# Altium footprint library inductors.PCBLIB: 83 footprints (part 4 of 6)
Each footprint in its own frame and in the unit in brackets; x right, y up, seen from the top. Pads: shape width x height; smd on the part's side, far side on the other; paste and mask are expansions set on the pad; w line width, h text height; cw(c..) or ccw(c..) is an arc to the next point about the centre after c.
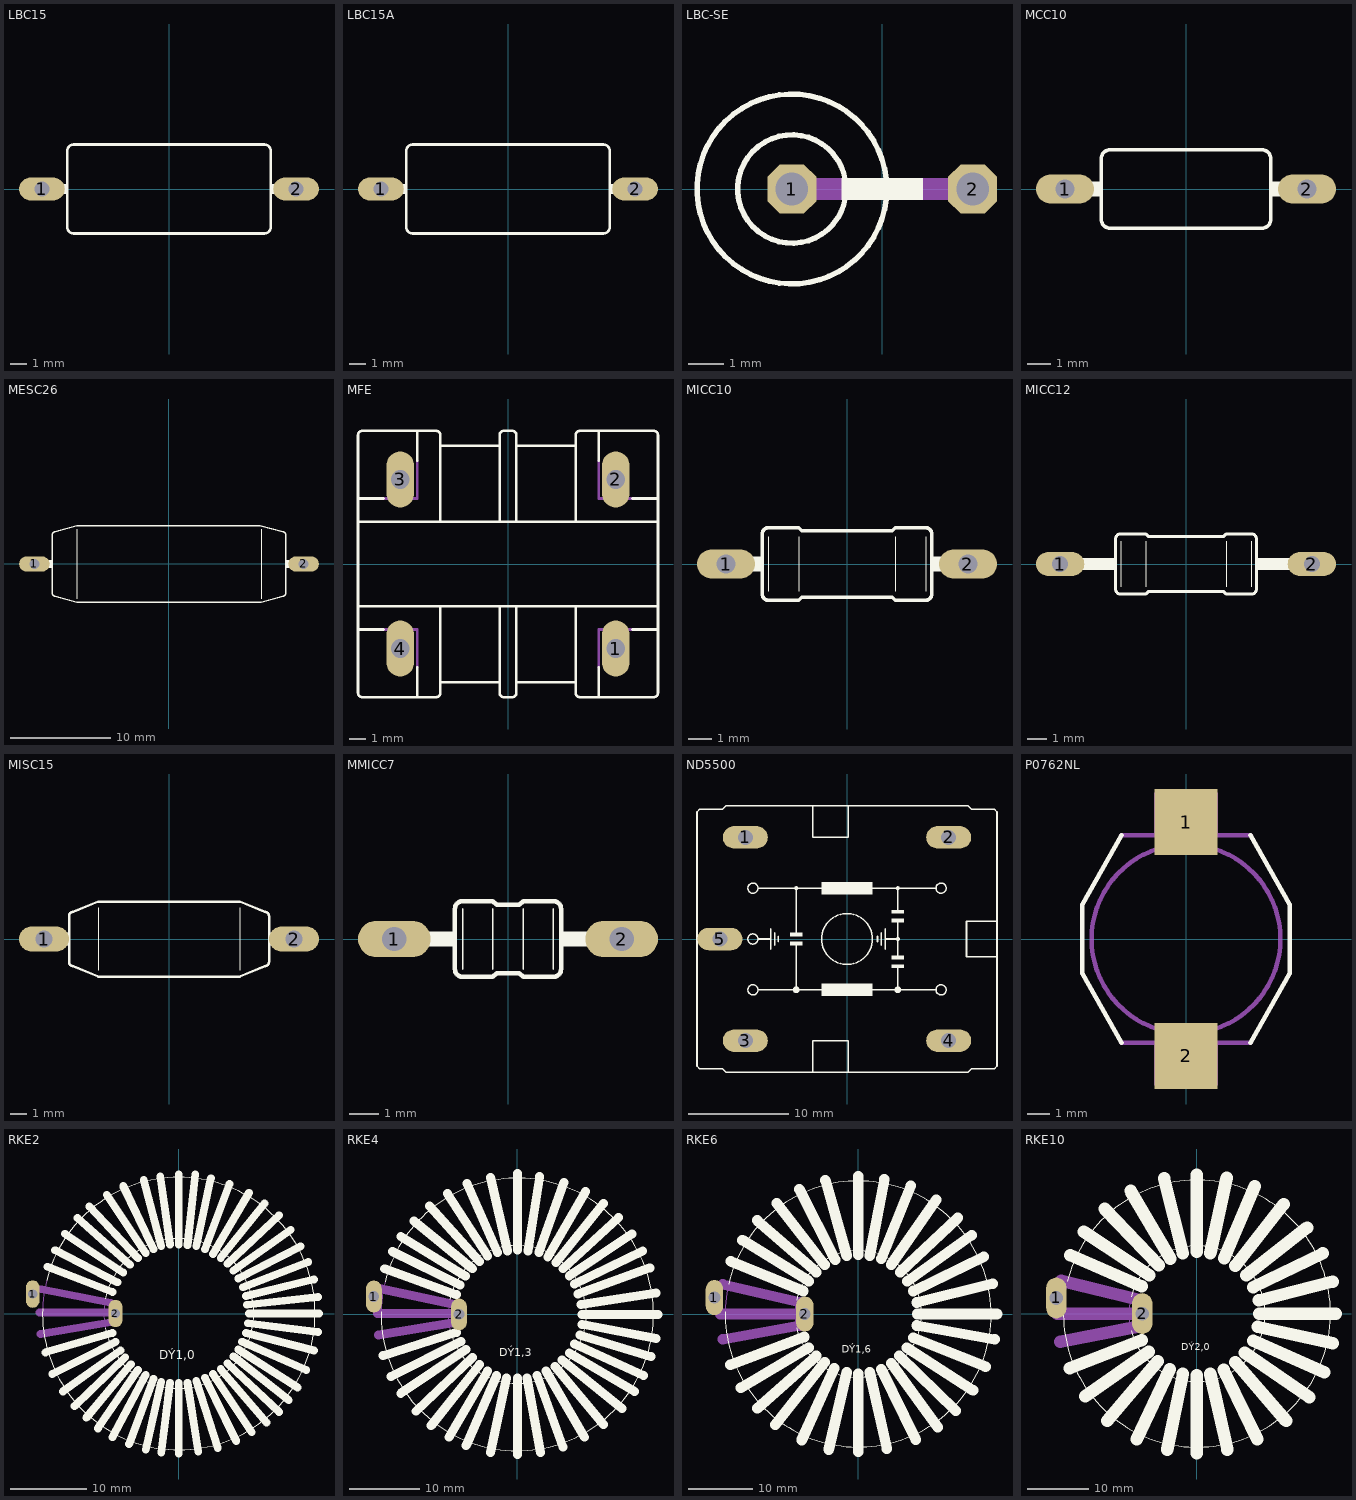
[diagram p3: the footprints below, top view; thin cyan lines are the x and y axes]

## LBC15 [mil]
pads (2):
  oval 108x54 hole 36: 1(-300,0) 2(300,0)
Top Overlay:
  rectangle: 240,-12 260,12
  rectangle: -260,-12 -240,12
  lines w6: -240,-90 -240,90 cw(c-225,90) -225,105 225,105 cw(c225,90) 240,90 240,-90 cw(c225,-90) 225,-105 -225,-105 cw(c-225,-90) -240,-90
Mechanical 16:
  lines w24: -300,0 -260,0 ; 260,0 300,0

## LBC15A [mil]
pads (2):
  oval 108x54 hole 36: 1(-300,0) 2(300,0)
Top Overlay:
  rectangle: 240,-12 253,12
  rectangle: -253,-12 -240,12
  lines w6: -240,-90 -240,90 cw(c-225,90) -225,105 225,105 cw(c225,90) 240,90 240,-90 cw(c225,-90) 225,-105 -225,-105 cw(c-225,-90) -240,-90
Mechanical 16:
  lines w24: -300,0 -255,0 ; 255,0 300,0

## LBC-SE [mil]
pads (2):
  oct 54x54 hole 36: 1(-100,0) 2(100,0)
Top Overlay:
  circle w6: c-100,0 r105
  circle w6: c-100,0 r60
  rectangle: -45,-12 45,12
Mechanical 16:
  lines w24: -100,0 -45,0 ; 45,0 100,0

## MCC10 [mil]
pads (2):
  oval 96x48 hole 32: 1(-200,0) 2(200,0)
Top Overlay:
  rectangle: 140,-12 166,12
  rectangle: -166,-12 -140,12
  lines w6: -140,-50 -140,50 cw(c-125,50) -125,65 125,65 cw(c125,50) 140,50 140,-50 cw(c125,-50) 125,-65 -125,-65 cw(c-125,-50) -140,-50
Mechanical 16:
  lines w24: -200,0 -165,0 ; 165,0 200,0

## MESC26 [mil]
pads (2):
  oval 120x60 hole 40: 1(-525,0) 2(525,0)
Top Overlay:
  rectangle: 455,-16 473,16
  rectangle: -473,-16 -455,16
  lines w2: -360,-135 -360,135 ; 360,-135 360,135
  lines w6: -455,-115 ccw(c-445,-115) -445,-125 -360,-150 360,-150 445,-125 ccw(c445,-115) 455,-115 455,115 ccw(c445,115) 445,125 355,150 -360,150 -445,125 ccw(c-445,115) -455,115 -455,-115
Mechanical 16:
  lines w32: -525,0 -475,0 ; 475,0 525,0

## MFE [mil]
pads (4):
  oval 66x132 hole 44: 1(255,-200) 2(255,200) 3(-255,200) 4(-255,-200)
Top Overlay:
  lines w6: -355,-100 -160,-100 ; -355,100 -160,100 ; -294.69,-155 -355,-155 ; -294.69,155 -355,155 ; -215,-244.72 -215,-315 ; -215,244.72 -215,315 ; 215,-244.72 215,-315 ; 215,244.72 215,315 ; 294.69,-155 355,-155 ; 294.69,155 355,155 ; 355,-100 160,-100 ; 355,100 160,100 ; -355,-155 -355,-305 ccw(c-345,-305) -345,-315 -215,-315 ; -355,-155 -355,155 ; -355,155 -355,305 cw(c-345,305) -345,315 -215,315 ; -215,-315 -170,-315 ccw(c-170,-305) -160,-305 -160,-280 ; -215,315 -170,315 cw(c-170,305) -160,305 -160,280 ; -160,-280 -160,-100 ; -160,-280 -20,-280 ; -160,-100 -20,-100 ; -160,100 -20,100 ; -160,100 -160,280 ; -160,280 -20,280 ; -20,-280 -20,-100 ; -20,-280 -20,-305 ccw(c-10,-305) -10,-315 10,-315 ccw(c10,-305) 20,-305 20,-280 ; -20,-100 20,-100 ; -20,100 20,100 ; -20,100 -20,280 ; -20,280 -20,305 cw(c-10,305) -10,315 10,315 cw(c10,305) 20,305 20,280 ; 20,-280 20,-100 ; 20,-280 160,-280 ; 20,-100 160,-100 ; 20,100 160,100 ; 20,100 20,280 ; 20,280 160,280 ; 160,-280 160,-100 ; 160,-280 160,-305 ccw(c170,-305) 170,-315 215,-315 ; 160,100 160,280 ; 160,280 160,305 cw(c170,305) 170,315 215,315 ; 215,-315 345,-315 ccw(c345,-305) 355,-305 355,-155 ; 215,315 345,315 cw(c345,305) 355,305 355,155 ; 355,-155 355,155
Mechanical 16:
  lines w6: -294.69,-155 -215,-155 -215,-244.72 ; -294.69,155 -215,155 -215,244.72 ; 215,-244.72 215,-155 294.69,-155 ; 215,244.72 215,155 294.69,155

## MICC10 [mil]
pads (2):
  oval 96x48 hole 32: 1(-200,0) 2(200,0)
Top Overlay:
  rectangle: 140,-12 167,12
  rectangle: -167,-12 -140,12
  lines w2: -130,-45 -130,45 ; -80,-45 -80,45 ; 80,-45 80,45 ; 130,-45 130,45
  lines w6: -140,-50 ccw(c-130,-50) -130,-60 -80,-60 -75,-55 75,-55 80,-60 130,-60 ccw(c130,-50) 140,-50 140,50 ccw(c130,50) 130,60 80,60 75,55 -75,55 -80,60 -130,60 ccw(c-130,50) -140,50 -140,-50
Mechanical 16:
  lines w24: -200,0 -165,0 ; 165,0 200,0

## MICC12 [mil]
pads (2):
  oval 96x48 hole 32: 1(-250,0) 2(250,0)
Top Overlay:
  rectangle: 140,-12 216,12
  rectangle: -216,-12 -140,12
  lines w2: -130,-45 -130,45 ; -80,-45 -80,45 ; 80,-45 80,45 ; 130,-45 130,45
  lines w6: -140,-50 ccw(c-130,-50) -130,-60 -80,-60 -75,-55 75,-55 80,-60 130,-60 ccw(c130,-50) 140,-50 140,50 ccw(c130,50) 130,60 80,60 75,55 -75,55 -80,60 -130,60 ccw(c-130,50) -140,50 -140,-50
Mechanical 16:
  lines w24: -250,0 -205,0 ; 205,0 250,0

## MISC15 [mil]
pads (2):
  oval 120x60 hole 40: 1(-300,0) 2(300,0)
Top Overlay:
  rectangle: 240,-16 256,16
  rectangle: -256,-16 -240,16
  lines w2: -170,-75 -170,75 ; 170,-75 170,75
  lines w6: -240,-55 ccw(c-230,-55) -230,-65 -170,-90 170,-90 230,-65 ccw(c230,-55) 240,-55 240,55 ccw(c230,55) 230,65 170,90 -170,90 -230,65 ccw(c-230,55) -240,55 -240,-55
Mechanical 16:
  lines w32: -300,0 -260,0 ; 260,0 300,0

## MMICC7 [mil]
pads (2):
  oval 96x48 hole 32: 1(-150,0) 2(150,0)
Top Overlay:
  rectangle: 70,-10 115,10
  rectangle: -115,-10 -70,10
  lines w2: -60,-40 -60,40 ; -20,-40 -20,40 ; 20,-40 20,40 ; 60,-40 60,40
  lines w6: -70,-40 ccw(c-60,-40) -60,-50 -20,-50 -15,-45 15,-45 20,-50 60,-50 ccw(c60,-40) 70,-40 70,40 ccw(c60,40) 60,50 20,50 15,45 -15,45 -20,50 -60,50 ccw(c-60,40) -70,40 -70,-40
Mechanical 16:
  lines w20: -150,0 -115,0 ; 115,0 150,0

## ND5500 [mil]
pads (5):
  oval 177x88.5 hole 59: 1(-400,400) 2(400,400) 3(-400,-400) 4(400,-400) 5(-500,0)
Top Overlay:
  circle w6: c0,0 r100
  circle w6: c200,0 r5
  circle w16: c-200,-200 r5
  circle w6: c-200,200 r5
  circle w6: c200,200 r5
  circle w16: c200,-200 r5
  circle w6: c370,-200 r20
  circle w6: c370,200 r20
  circle w6: c-370,200 r20
  circle w6: c-370,0 r20
  circle w6: c-370,-200 r20
  rectangle: -100,-225 100,-175
  rectangle: -100,175 100,225
  rectangle: -225,-25 -175,-10
  rectangle: -225,10 -175,25
  rectangle: 175,-115 225,-100
  rectangle: 175,-80 225,-65
  rectangle: 175,100 225,115
  rectangle: 175,65 225,80
  lines w6: -350,-200 -200,-200 ; -350,0 -300,0 ; -350,200 -200,200 ; -300,-40 -300,0 ; -300,40 -300,0 ; -285,-25 -285,25 ; -270,-10 -270,10 ; -200,-20 -200,-200 ; -200,20 -200,200 ; 120,-10 120,10 ; 135,-25 135,25 ; 150,-40 150,0 ; 150,40 150,0 ; 200,-110 200,-200 ; 200,-70 200,0 ; 200,70 200,0 ; 200,110 200,200 ; 350,-200 200,-200 ; 350,200 200,200 ; -200,-200 200,-200 ; -200,200 200,200 ; -135,-525 -135,-400 5,-400 5,-525 ; -135,-525 5,-525 ; -135,-525 -475,-525 -490,-510 -580,-510 -590,-500 -590,500 -580,510 -490,510 -475,525 -135,525 ; -135,525 -135,400 5,400 5,525 ; -135,525 5,525 ; 5,-525 475,-525 490,-510 580,-510 590,-500 590,-70 ; 5,525 475,525 490,510 580,510 590,500 590,70 ; 150,0 200,0 ; 590,-70 590,70 ; 590,-70 470,-70 470,70 590,70

## P0762NL [mil]
pads (2):
  rect 110x115 smd: 1(0,203) 2(0,-203)
Top Overlay:
  lines w8: -112,-180 -180,-60 -180,60 -112,180 ; 112,-180 180,-60 180,60 112,180
Mechanical 16:
  circle w8: c0,0 r164
  lines w8: -112,-180 112,-180 ; -112,180 112,180 ; -52,-184 -52,-252 52,-252 52,-184 ; -52,184 -52,252 52,252 52,184

## RKE2 [mil]
pads (2):
  oval 70.5x141 hole 47: 1(-750,100) 2(-325,0)
Top Overlay:
  lines w6: -699.56,25 ccw(c-0.02,-0.04) -678.57,171.87 ; -377.69,-74.64 ccw(c-0.01,0) -377.69,74.64
  lines w40: -685,-200 -340,-100 ; -675,240 -340,110 ; -650,-310 -325,-145 ; -635,325 -315,160 ; -595,-400 -300,-190 ; -585,410 -285,210 ; -535,-475 -275,-225 ; -520,490 -250,250 ; -475,-535 -245,-260 ; -460,550 -210,285 ; -415,-590 -210,-290 ; -370,610 -170,310 ; -340,-635 -170,-315 ; -285,655 -130,330 ; -255,-670 -130,-335 ; -180,685 -90,345 ; -170,-700 -90,-350 ; -95,705 -45,355 ; -90,-715 -45,-355 ; 0,-720 0,-355 ; 0,355 0,715 ; 45,-355 100,-710 ; 45,350 85,715 ; 90,-345 200,-690 ; 90,345 165,695 ; 135,-330 295,-655 ; 135,330 260,665 ; 175,-310 375,-610 ; 175,305 360,620 ; 215,-285 450,-560 ; 215,285 440,565 ; 250,-255 515,-505 ; 250,255 515,505 ; 280,-220 565,-445 ; 280,220 575,430 ; 305,-185 610,-380 ; 305,180 625,345 ; 325,-145 655,-290 ; 330,135 665,265 ; 345,-100 695,-190 ; 345,90 695,175 ; 350,45 715,85 ; 355,-50 715,-95 ; 360,0 720,0
  text "DÝ1,0" at -100,-250 h77.5
Mechanical 16:
  lines w6: -699.55,25 cw(c-0.02,0.01) -678.57,171.87 ; -377.69,-74.64 cw(c-0.01,0) -377.69,74.64
  lines w40: -715,5 -350,5 ; -710,-105 -350,-45 ; -705,125 -350,55

## RKE4 [mil]
pads (2):
  oval 88.5x177 hole 59: 1(-800,100) 2(-325,0)
Top Overlay:
  lines w6: -759.85,15 ccw(c0.01,0.01) -737.87,182.07 ; -375.62,-84.48 ccw(c0,0) -375.62,84.48
  lines w50: -750,-230 -340,-100 ; -740,255 -340,110 ; -705,-345 -315,-150 ; -695,350 -320,165 ; -650,-440 -285,-195 ; -650,435 -290,215 ; -575,520 -250,255 ; -565,-540 -250,-240 ; -490,605 -210,295 ; -480,-620 -210,-280 ; -390,675 -165,325 ; -380,-685 -165,-315 ; -285,-730 -115,-340 ; -280,730 -110,345 ; -150,-770 -60,-355 ; -150,765 -55,355 ; 0,-780 0,-355 ; 0,360 0,785 ; 55,-355 130,-770 ; 60,355 125,770 ; 110,-340 255,-740 ; 120,345 260,735 ; 160,-315 375,-685 ; 170,320 380,685 ; 210,-290 480,-615 ; 215,290 480,620 ; 250,-255 585,-525 ; 255,255 565,540 ; 290,-215 655,-430 ; 290,215 640,450 ; 320,-165 705,-340 ; 320,170 700,355 ; 340,115 740,260 ; 350,-115 745,-235 ; 355,55 775,120 ; 360,-55 775,-135 ; 360,0 785,0
  text "DÝ1,3" at -100,-250 h77.5
Mechanical 16:
  lines w6: -759.85,15 cw(c0.02,0.01) -737.87,182.07 ; -375.62,-84.48 cw(c0,0) -375.62,84.48
  lines w50: -780,5 -350,5 ; -775,-115 -350,-45 ; -770,145 -350,55

## RKE6 [mil]
pads (2):
  oval 106.5x213 hole 71: 1(-875,100) 2(-325,0)
Top Overlay:
  lines w6: -809.86,15 ccw(c-0.01,-0.01) -789.19,182.41 ; -375.62,-84.48 ccw(c0,0) -375.62,84.48
  lines w64: -780,-310 -330,-140 ; -775,320 -335,140 ; -715,-450 -300,-205 ; -705,450 -300,200 ; -615,-575 -255,-255 ; -615,570 -255,255 ; -505,-675 -205,-295 ; -495,675 -205,300 ; -360,760 -140,330 ; -345,-770 -145,-330 ; -200,815 -70,355 ; -180,-825 -70,-355 ; 0,-840 0,-365 ; 0,360 0,840 ; 70,-355 175,-820 ; 70,355 160,820 ; 140,-335 350,-765 ; 140,335 320,780 ; 200,-300 485,-690 ; 200,300 475,695 ; 250,-255 595,-590 ; 255,255 605,585 ; 295,-205 700,-465 ; 300,200 690,480 ; 335,-145 775,-320 ; 335,140 765,350 ; 355,-70 830,-155 ; 355,70 820,185 ; 360,0 845,0
  text "DÝ1,6" at -100,-250 h77.5
Mechanical 16:
  lines w6: -809.86,15 cw(c-0.01,-0.01) -789.19,182.41 ; -375.62,-84.48 cw(c0,0) -375.62,84.48
  lines w64: -840,0 -355,0 ; -825,-155 -355,-70 ; -825,180 -350,70

## RKE10 [mil]
pads (2):
  oval 130.5x261 hole 87: 1(-900,100) 2(-350,0)
Top Overlay:
  lines w6: -854.94,-10 ccw(c0.02,0.01) -829.56,207.02 ; -421.09,-109.12 ccw(c0.01,0) -421.09,109.12
  lines w80: -815,-350 -355,-170 ; -810,375 -355,175 ; -725,525 -305,245 ; -715,-530 -310,-245 ; -590,670 -245,310 ; -575,-685 -250,-305 ; -425,785 -170,350 ; -385,-805 -175,-355 ; -210,865 -90,385 ; -190,-870 -90,-385 ; 0,-895 0,-395 ; 0,395 0,890 ; 85,-385 195,-870 ; 85,385 190,870 ; 170,-360 385,-805 ; 175,355 370,815 ; 245,-310 570,-685 ; 245,305 555,700 ; 305,-250 720,-535 ; 315,245 705,550 ; 360,-175 815,-375 ; 360,170 805,385 ; 390,-85 870,-190 ; 395,85 870,205 ; 400,0 890,0
  text "DÝ2,0" at -100,-250 h77.5
Mechanical 16:
  lines w6: -854.94,-10 cw(c0.02,0.01) -829.56,207.02 ; -421.09,-109.12 cw(c0.01,0) -421.09,109.12
  lines w80: -895,0 -390,0 ; -875,-180 -380,-85 ; -870,210 -380,90